# EAGLE library part FT232-SHORT (library lieven)
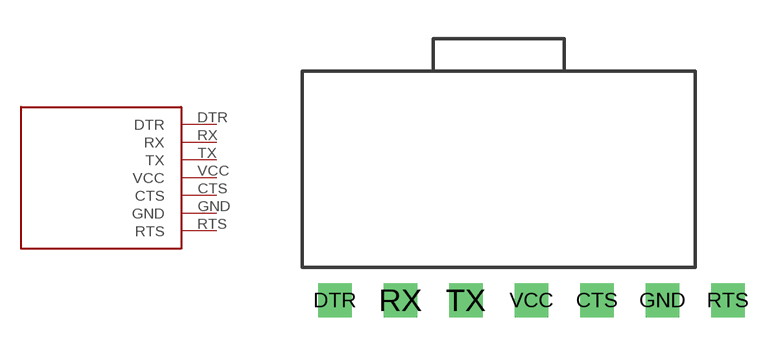
[diagram p21: symbol with the pads of FT232-SHORT; footprint FT232-SHORT]

Designator prefix -

## FT232-SHORT  [FT232-SHORT]
CTS  CTS
DTR  DTR
GND  GND
RTS  RTS
RX  RX
TX  TX
VCC  VCC

## Footprint FT232-SHORT (pad centres in mm)
drill 0.8 square: CTS 10.16,0; DTR 0,0; GND 12.7,0; RTS 15.24,0; RX 2.54,0; TX 5.08,0; VCC 7.62,0